# Altium footprint library 2019-09-24_15-52-28.PcbLib: 1 footprints
Each footprint in its own frame and in the unit in brackets; x right, y up, seen from the top. Pads: shape width x height; smd on the part's side, far side on the other; paste and mask are expansions set on the pad; w line width, h text height; cw(c..) or ccw(c..) is an arc to the next point about the centre after c.
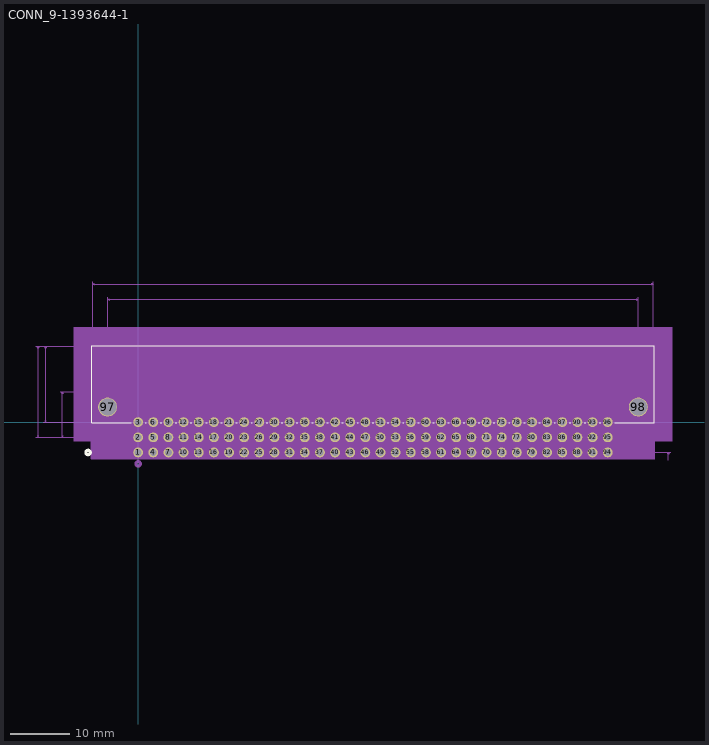
[diagram p0: the footprint, top view; thin cyan lines are the x and y axes]

## CONN_9-1393644-1 [mil]
pads (98):
  round 65 hole 45 mask+0: 1(0,-200) 2(0,-100) 3(0,0) 4(100,-200) 5(100,-100) 6(100,0) 7(200,-200) 8(200,-100) 9(200,0) 10(300,-200) 11(300,-100) 12(300,0) 13(400,-200) 14(400,-100) 15(400,0) 16(500,-200) 17(500,-100) 18(500,0) 19(600,-200) 20(600,-100) 21(600,0) 22(700,-200) 23(700,-100) 24(700,0) 25(800,-200) 26(800,-100) 27(800,0) 28(900,-200) 29(900,-100) 30(900,0) 31(1000,-200) 32(1000,-100) 33(1000,0) 34(1100,-200) 35(1100,-100) 36(1100,0) 37(1200,-200) 38(1200,-100) 39(1200,0) 40(1300,-200) 41(1300,-100) 42(1300,0) 43(1400,-200) 44(1400,-100) 45(1400,0) 46(1500,-200) 47(1500,-100) 48(1500,0) 49(1600,-200) 50(1600,-100) 51(1600,0) 52(1700,-200) 53(1700,-100) 54(1700,0) 55(1800,-200) 56(1800,-100) 57(1800,0) 58(1900,-200) 59(1900,-100) 60(1900,0) 61(2000,-200) 62(2000,-100) 63(2000,0) 64(2100,-200) 65(2100,-100) 66(2100,0) 67(2200,-200) 68(2200,-100) 69(2200,0) 70(2300,-200) 71(2300,-100) 72(2300,0) 73(2400,-200) 74(2400,-100) 75(2400,0) 76(2500,-200) 77(2500,-100) 78(2500,0) 79(2600,-200) 80(2600,-100) 81(2600,0) 82(2700,-200) 83(2700,-100) 84(2700,0) 85(2800,-200) 86(2800,-100) 87(2800,0) 88(2900,-200) 89(2900,-100) 90(2900,0) 91(3000,-200) 92(3000,-100) 93(3000,0) 94(3100,-200) 95(3100,-100) 96(3100,0)
  round 125 hole 115: 97(-202,100) 98(3302,100)
Top Overlay:
  circle w20: c-330.5,-200 r15
  lines w6: -45.33,-5 -305.5,-5 -305.5,506 3405.5,506 3405.5,-5 3145.32,-5 ; 45.33,-5 54.67,-5 ; 145.32,-5 154.68,-5 ; 245.32,-5 254.68,-5 ; 345.32,-5 354.68,-5 ; 445.32,-5 454.68,-5 ; 545.33,-5 554.67,-5 ; 645.33,-5 654.67,-5 ; 745.33,-5 754.67,-5 ; 845.33,-5 854.67,-5 ; 945.33,-5 954.67,-5 ; 1045.33,-5 1054.67,-5 ; 1145.33,-5 1154.67,-5 ; 1245.33,-5 1254.67,-5 ; 1345.33,-5 1354.67,-5 ; 1445.33,-5 1454.67,-5 ; 1545.33,-5 1554.67,-5 ; 1645.33,-5 1654.67,-5 ; 1745.33,-5 1754.67,-5 ; 1845.33,-5 1854.67,-5 ; 1945.33,-5 1954.67,-5 ; 2045.33,-5 2054.68,-5 ; 2145.32,-5 2154.68,-5 ; 2245.32,-5 2254.68,-5 ; 2345.32,-5 2354.68,-5 ; 2445.32,-5 2454.68,-5 ; 2545.32,-5 2554.68,-5 ; 2645.32,-5 2654.68,-5 ; 2745.32,-5 2754.68,-5 ; 2845.32,-5 2854.68,-5 ; 2945.32,-5 2954.68,-5 ; 3045.32,-5 3054.68,-5
Bottom Overlay:
  circle w20: c-330.5,-200 r15
Mechanical 5:
  region: -425.5,626 3525.5,626 3525.5,-125 -425.5,-125
Mechanical 7:
  lines w1: -675.5,-100 1550,-100 ; -675.5,501 -300.5,501 ; -625.5,0 -300.5,0 ; -625.5,501 -300.5,501 ; -515.5,-100 1550,-100 ; -515.5,200 1900,200 ; -400.5,-100 1550,-100 ; -400.5,100 3302,100 3302,826 ; -300.5,926 -300.5,501 ; -202,100 -202,826 ; -50,586 0,586 ; 0,-100 3515.5,-100 ; 0,601 0,-200 3515.5,-200 ; 100,-200 100,601 ; 150,586 100,586 ; 3400.5,501 3400.5,926 ; 3500.5,-250 3500.5,-200 ; 3500.5,-50 3500.5,-100 ; -660.5,-100 -655.5,-90 -665.5,-90 -660.5,-100 ; -660.5,-100 -660.5,501 ; -660.5,501 -655.5,491 -665.5,491 -660.5,501 ; -610.5,0 -605.5,10 -615.5,10 -610.5,0 ; -610.5,0 -610.5,501 ; -610.5,501 -605.5,491 -615.5,491 -610.5,501 ; -500.5,-100 -495.5,-90 -505.5,-90 -500.5,-100 ; -500.5,-100 -500.5,200 ; -500.5,200 -495.5,190 -505.5,190 -500.5,200 ; -385.5,-100 -380.5,-90 -390.5,-90 -385.5,-100 ; -385.5,-100 -385.5,100 ; -385.5,100 -380.5,90 -390.5,90 -385.5,100 ; -300.5,911 -290.5,906 -290.5,916 -300.5,911 ; -300.5,911 3400.5,911 ; -202,811 -192,806 -192,816 -202,811 ; -202,811 3302,811 ; 0,586 -10,581 -10,591 0,586 ; 100,586 110,581 110,591 100,586 ; 3302,811 3292,806 3292,816 3302,811 ; 3400.5,911 3390.5,906 3390.5,916 3400.5,911 ; 3500.5,-200 3505.5,-210 3495.5,-210 3500.5,-200 ; 3500.5,-100 3505.5,-90 3495.5,-90 3500.5,-100
  text "0.501in/12.725mm" at -830.5,238 h25
  text "0.601in/15.265mm" at -880.5,188 h25
  text "0.3in/7.62mm" at -670.5,37.5 h25
  text "0.2in/5.08mm" at -555.5,-12.5 h25
  text "0.1in/2.54mm" at 3520.5,-112.5 h25
  text "3.701in/94.005mm" at 1450,931 h25
  text "3.504in/89.002mm" at 1450,831 h25
  text "0.1in/2.54mm" at -25,606 h25
  text "Alt Padstyle 2: OX90Y60D30P" at 1212.5,-917.5 h50
  text "Alt Padstyle 1: OX60Y90D30P" at 1212.5,-842.5 h50
  text "Right Mtg Padstyle: EX60Y60D30P" at 1162.5,-767.5 h50
  text "Left Mtg Padstyle: EX60Y60D30P" at 1175,-692.5 h50
  text "3rd Mtg Padstyle: EX70Y70D70P" at 1187.5,-617.5 h50
  text "2nd Mtg Padstyle: EX70Y70D70P" at -305,-325 h50
  text "1st Mtg Padstyle: EX125Y125D115P" at 1150,-467.5 h50
  text "Default Padstyle: OX65Y65D45P" at 1187.5,-392.5 h50
Mechanical 13:
  circle w20: c0,-275 r15
  lines w1: -300.5,0 -300.5,501 3400.5,501 3400.5,0 -300.5,0
Mechanical 15:
  region: 3410.5,511 -310.5,511 -310.5,-242.5 3410.5,-242.5
  lines w6: -310.5,-242.5 3410.5,-242.5 3410.5,511 -310.5,511 -310.5,-242.5
3D body: height 10, standoff 0, extent 0,0 10,10